# Altium integrated library RSP-122811-01.IntLib: 1 symbol
Pins are listed as number, name and electrical type; pins without a type are passive.

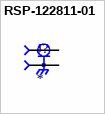
[diagram p0: symbol RSP-122811-01]

## RSP-122811-01
designator J?
MF: {'manufacturer': u'Samtec Inc.'}; MP: RSP-122811-01; Package: None; Price: None; Value: *; Availability: Unavailable
footprint SAMTEC_RSP-122811-01
pins: 1, G1 GND, G2 GND